# Altium schematic symbol library POL_CAP.SchLib: 1 symbol
Pins are listed as number, name and electrical type; pins without a type are passive.

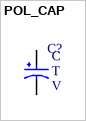
[diagram p0: symbol POL_CAP]

## POL_CAP
designator C?  Voltage Rating: V  Tolerance: T  Capacitance: C
=Description; ComponentLink1Description: Datasheet; ComponentLink1URL: www.google.com
pins: 1, 2